# EAGLE library part 62504022021 (library Wire-to-Board)
WR-BHD 2.00mm Male Box Header With Lever, 40 Pins=>Code : Con_WTB_BHD_2.00_Male_THT_62504022021 <http://katalog.we-online.de/media/thumbs2/eican/thb_Con_WTB_BHD_2.00_Male_THT_6250xx22021_pf2.jpg> Details see: http://katalog.we-online.de/en/em/625_0xx_220_21 Created 2014-06-05, Karrer Zheng 2014 (C) Würth Elektronik
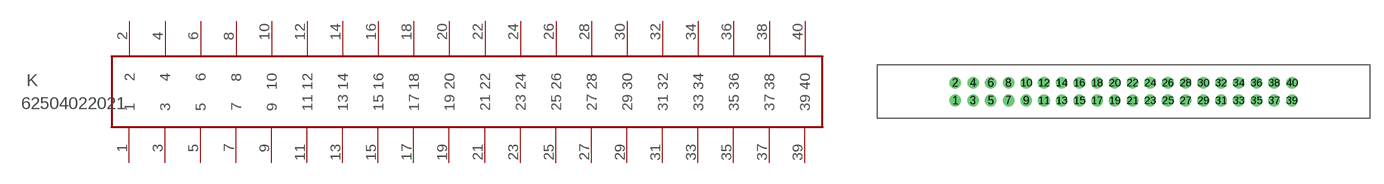
[diagram p251: symbol with the pads of 62504022021; footprint 62504022021]

Designator prefix K

## 62504022021  [62504022021]
1  1  pas
2  2  pas
3  3  pas
4  4  pas
5  5  pas
6  6  pas
7  7  pas
8  8  pas
9  9  pas
10  10  pas
11  11  pas
12  12  pas
13  13  pas
14  14  pas
15  15  pas
16  16  pas
17  17  pas
18  18  pas
19  19  pas
20  20  pas
21  21  pas
22  22  pas
23  23  pas
24  24  pas
25  25  pas
26  26  pas
27  27  pas
28  28  pas
29  29  pas
30  30  pas
31  31  pas
32  32  pas
33  33  pas
34  34  pas
35  35  pas
36  36  pas
37  37  pas
38  38  pas
39  39  pas
40  40  pas

## Footprint 62504022021 (pad centres in mm)
WR-BHD-2.00mm Male Box Header With Lever,40 pins
drill 0.8: 1 -14.27,-1; 2 -14.27,1; 3 -12.27,-1; 4 -12.27,1; 5 -10.27,-1; 6 -10.27,1; 7 -8.27,-1; 8 -8.27,1; 9 -6.27,-1; 10 -6.27,1; 11 -4.27,-1; 12 -4.27,1; 13 -2.27,-1; 14 -2.27,1; 15 -0.27,-1; 16 -0.27,1; 17 1.73,-1; 18 1.73,1; 19 3.73,-1; 20 3.73,1; 21 5.73,-1; 22 5.73,1; 23 7.73,-1; 24 7.73,1; 25 9.73,-1; 26 9.73,1; 27 11.73,-1; 28 11.73,1; 29 13.73,-1; 30 13.73,1; 31 15.73,-1; 32 15.73,1; 33 17.73,-1; 34 17.73,1; 35 19.73,-1; 36 19.73,1; 37 21.73,-1; 38 21.73,1; 39 23.73,-1; 40 23.73,1